# EAGLE library part LL1531/32 (library lundahl)
LL1531 / LL1532
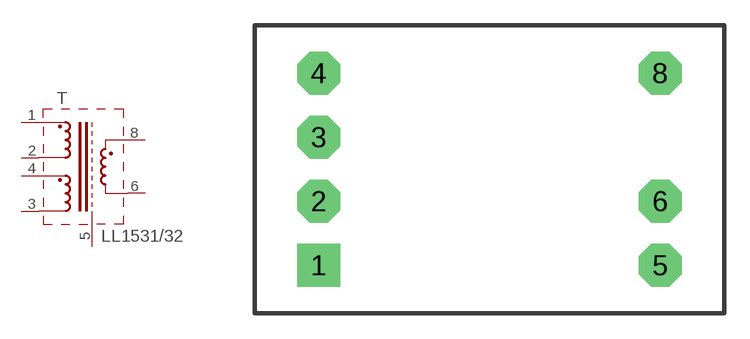
[diagram p17: symbol with the pads of LL1531; footprint LL1531]

Designator prefix T

## LL1531/32  [LL1531]
1  1  pas
2  2  pas
3  3  pas
4  4  pas
5  5  pas
6  6  pas
8  8  pas

## Footprint LL1531 (pad centres in mm)
LL1531
drill 1.422 pad 2.54 square: 1 -10.795,-5.715
drill 1.422 pad 2.54 octagon: 2 -10.795,-1.905; 3 -10.795,1.905; 4 -10.795,5.715; 5 9.525,-5.715; 6 9.525,-1.905; 8 9.525,5.715